# Altium schematic symbol library BGS12WN6.SchLib: 1 symbol
Pins are listed as number, name and electrical type; pins without a type are passive.

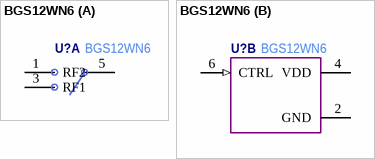
[diagram p0: symbol BGS12WN6]

## BGS12WN6
designator U?  Manufacturer Part Number: BGS12WN6  (hidden comment: *)
part A pins: 1 RF2, 3 RF1, 5 RFIN
part B pins: 2 GND (power), 4 VDD (power), 6 CTRL (in)